# Altium footprint library NE5534_KW_Library.PcbLib: 2 footprints
Each footprint in its own frame and in the unit in brackets; x right, y up, seen from the top. Pads: shape width x height; smd on the part's side, far side on the other; paste and mask are expansions set on the pad; w line width, h text height; cw(c..) or ccw(c..) is an arc to the next point about the centre after c.
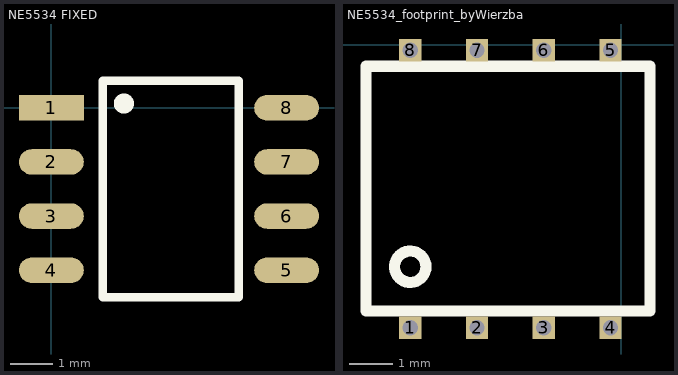
[diagram p0: the footprints below, top view; thin cyan lines are the x and y axes]

## NE5534 FIXED [mm]
pads (8):
  rect 1.52x0.6 smd: 1(0,0)
  oval 1.52x0.6 smd: 2(0,-1.27) 3(0,-2.54) 4(0,-3.81) 5(5.52,-3.81) 6(5.52,-2.54) 7(5.52,-1.27) 8(5.52,0)
Top Overlay:
  circle w0.254: c1.7,0.1 r0.108
  lines w0.2: 1.2,-4.445 1.2,0.635 3.077,0.635 4.4,0.635 4.4,-4.445 1.2,-4.445
3D body "User Library-so8-3.STEP": height 1.7, standoff 0, extent -0.3,-4.35 5.7,0.55

## NE5534_footprint_byWierzba [mil] "NE5534"
pads (8):
  rect 20.08x20.08 hole 13.78 square: 1(-190,-255) 2(-129.92,-255) 3(-69.84,-255) 4(-9.76,-255) 5(-9.76,-5) 6(-69.84,-5) 7(-129.92,-5) 8(-190,-5)
Top Overlay:
  circle w10: c-190,-200 r14.14
  lines w10: -230,-240 -230,-19.53 25.91,-19.53 25.91,-240 -230,-240